# EAGLE library part PIC32MX270F256D (library HW2_Library)
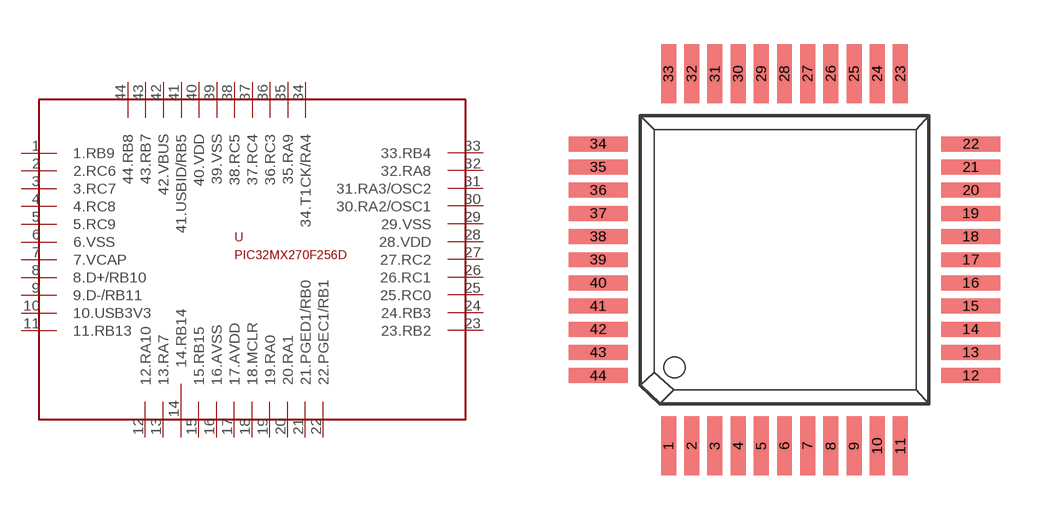
[diagram p2: symbol with the pads of PIC_44-PIN; footprint PIC_44-PIN]

Designator prefix -

## PIC32MX270F256D  [PIC_44-PIN]
1  1.RB9
2  2.RC6
3  3.RC7
4  4.RC8
5  5.RC9
6  6.VSS
7  7.VCAP
8  8.D+/RB10
9  9.D-/RB11
10  10.USB3V3
11  11.RB13
12  12.RA10
13  13.RA7
14  14.RB14
15  15.RB15
16  16.AVSS
17  17.AVDD
18  18.MCLR
19  19.RA0
20  20.RA1
21  21.PGED1/RB0
22  22.PGEC1/RB1
23  23.RB2
24  24.RB3
25  25.RC0
26  26.RC1
27  27.RC2
28  28.VDD
29  29.VSS
30  30.RA2/OSC1
31  31.RA3/OSC2
32  32.RA8
33  33.RB4
34  34.T1CK/RA4
35  35.RA9
36  36.RC3
37  37.RC4
38  38.RC5
39  39.VSS
40  40.VDD
41  41.USBID/RB5
42  42.VBUS
43  43.RB7
44  44.RB8

## Footprint PIC_44-PIN (pad centres in mm)
Plastic Quad Flat Pack
smd 0.508 x 2.007: 1 -3.937,-6.706; 2 -3.15,-6.706; 3 -2.362,-6.706; 4 -1.575,-6.706; 5 -0.787,-6.706; 6 0,-6.706; 7 0.787,-6.706; 8 1.575,-6.706; 9 2.362,-6.706; 10 3.15,-6.706; 11 3.937,-6.706; 23 3.937,5.944; 24 3.15,5.944; 25 2.362,5.944; 26 1.575,5.944; 27 0.787,5.944; 28 0,5.944; 29 -0.787,5.944; 30 -1.575,5.944; 31 -2.362,5.944; 32 -3.15,5.944; 33 -3.937,5.944
smd 2.007 x 0.508: 12 6.325,-4.318; 13 6.325,-3.531; 14 6.325,-2.743; 15 6.325,-1.956; 16 6.325,-1.168; 17 6.325,-0.381; 18 6.325,0.406; 19 6.325,1.194; 20 6.325,1.981; 21 6.325,2.769; 22 6.325,3.556; 34 -6.325,3.556; 35 -6.325,2.769; 36 -6.325,1.981; 37 -6.325,1.194; 38 -6.325,0.406; 39 -6.325,-0.381; 40 -6.325,-1.168; 41 -6.325,-1.956; 42 -6.325,-2.743; 43 -6.325,-3.531; 44 -6.325,-4.318